# EAGLE library part PSUPPLY (library chlk_bot)
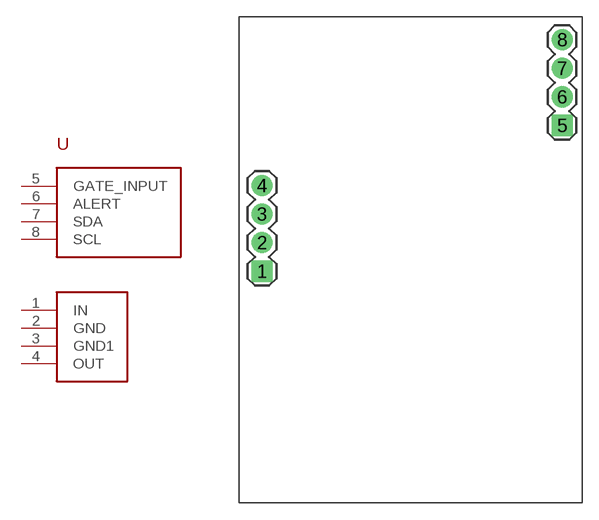
[diagram p15: symbol with the pads of PSUPPLY; footprint PSUPPLY]

Designator prefix -

## PSUPPLY  [PSUPPLY]
1  IN
2  GND
3  GND1
4  OUT
5  GATE_INPUT
6  ALERT
7  SDA
8  SCL

## Footprint PSUPPLY (pad centres in mm)
drill 1.016 pad 1.88 square: 1 2.032,20.574; 5 28.702,33.528
drill 1.016 pad 1.88 round: 2 2.032,23.114; 3 2.032,25.654; 4 2.032,28.194; 6 28.702,36.068; 7 28.702,38.608; 8 28.702,41.148